# Altium schematic symbol library MIC29152WU.SchLib: 1 symbol
Pins are listed as number, name and electrical type; pins without a type are passive.

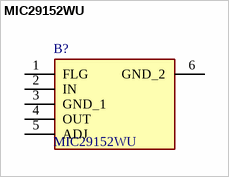
[diagram p0: symbol MIC29152WU]

## MIC29152WU
designator B?
MICREL SEMICONDUCTOR - MIC29152WU - IC, V REG, LDO 1.5A ADJ, SMD, 29152; Manufacturer_Name: Microchip; Geometry.Height: 5.08mm; Mouser Part Number: 998-MIC29152WU; Mouser Price/Stock: https://www.mouser.co.uk/ProductDetail/Microchip-Technology/MIC29152WU?qs=kh6iOki%2FeLHeF19%2FNG7LNg%3D%3D; Manufacturer_Part_Number: MIC29152WU; Datasheet Link: chrome-extension://efaidnbmnnnibpcajpcglclefindmkaj/https://www.mouser.in/datasheet/2/268/MIC2915x_30x_50x_75x_High_Current_Low_Dropout_Regu-3103149.pdf
footprint MIC29152WU
pins: 1 FLG, 2 IN, 3 GND_1, 4 OUT, 5 ADJ, 6 GND_2